# EAGLE library part 750319496 (library WE-AGDT)
WE-AGDT Auxiliary Gate Drive Transformer for SiC-MOSFET and IGBT Characteristics Interwinding capacitance down to <1 pF Tiny surface mount EP7 package Dielectric insulation up to 4 kV AC Basic insulation for 568 Vrms / 800 Vpk Safety: IEC62368-1 / IEC61558-2-16 AEC-Q200 qualification Operating temperature: -40 °C up to +130 °C Common control voltages for SiC MOSFET’s High Common-mode Transient Immunity (CMTI) Flyback, LLC, Half-Bridge topologies Up to 6 W output power Wide range input voltages 6 V to 36 V Different unipolar and bipolar voltages High efficiency and very compact solution Reference designs with Analog Devices, Texas Instruments, STMicroelectronics and onsemi Applications Industrial drives AC motor inverters HEV/EV charging station Battery chargers Solar inverters Data centers Uninterruptible power supplies Active power factor correction SiC-MOSFET based power converter <https://www.we-online.com/components/media/o179549v209%2075031xxxx_group.jpg> Details see: www.we-online.com/en/components/products/WE-AGDT <www.we-online.com/catalog/WE-AGDT/?utm_source=eagle_model&utm_medium=description_link&utm_campaign=eisos_eagle> Updated by Ella 2025-05-13 2025 (C) Wurth Elektronik
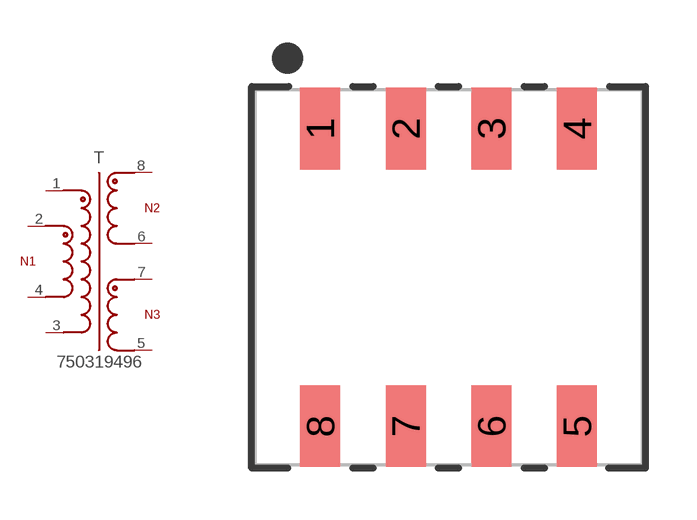
[diagram p0: symbol with the pads of WE-AGDT_EP7; footprint WE-AGDT_EP7]

Designator prefix T

## 750319496 (CWW: 7.3pF; DATASHEET-URL: https://www.we-online.com/redexpert/spec/750319496?ae; FSWITCH: 350kHz; HEIGHT: 11.94mm; ISAT: 4.5A; L: 7uH; LENGTH: 11.3mm; MOUNT: SMT; N: 1.8:3.6:1; PART-NUMBER: 750319496; PO: 6W; SIZE: EP7; VALUE: 9 - 18Vin, 20Vout; VERSION: Flyback; VIN: 9 - 18V; VOUT1: 20V; VOUT2: 5V; WIDTH: 10.95mm)  [WE-AGDT_EP7]
1  1  pas
2  2  pas
3  3  pas
4  4  pas
5  5  pas
6  6  pas
7  7  pas
8  8  pas

## Footprint WE-AGDT_EP7 (pad centres in mm)
WE-AGDT Auxiliary Gate Drive Transformer Size: EP7,SMT,8Pins L X W X H= 11.3mm X 10.95mm X 11.94mm
smd 1.17 x 2.39: 1 -3.75,4.345; 2 -1.25,4.345; 3 1.25,4.345; 4 3.75,4.345; 5 3.75,-4.345; 6 1.25,-4.345; 7 -1.25,-4.345; 8 -3.75,-4.345